# Altium schematic symbol library E2287CS051.Schlib: 1 symbol
Pins are listed as number, name and electrical type; pins without a type are passive.

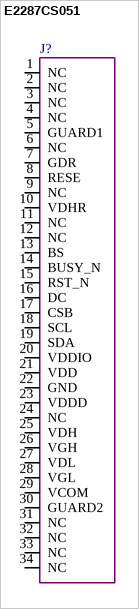
[diagram p0: symbol E2287CS051]

## E2287CS051
designator J?  (value not drawn)
J_E2287CS051_FPC_connector
pins: 1 NC, 2 NC, 3 NC, 4 NC, 5 GUARD1, 6 NC, 7 GDR, 8 RESE, 9 NC, 10 VDHR, 11 NC, 12 NC, 13 BS, 14 BUSY_N, 15 RST_N, 16 DC, 17 CSB, 18 SCL, 19 SDA, 20 VDDIO, 21 VDD, 22 GND, 23 VDDD, 24 NC, 25 VDH, 26 VGH, 27 VDL, 28 VGL, 29 VCOM, 30 GUARD2, 31 NC, 32 NC, 33 NC, 34 NC
2 alternate drawings of the same symbol